# Altium footprint library 1_to_5_Pin.PcbLib: 195 footprints (part 7 of 13)
Each footprint in its own frame and in the unit in brackets; x right, y up, seen from the top. Pads: shape width x height; smd on the part's side, far side on the other; paste and mask are expansions set on the pad; w line width, h text height; cw(c..) or ccw(c..) is an arc to the next point about the centre after c.
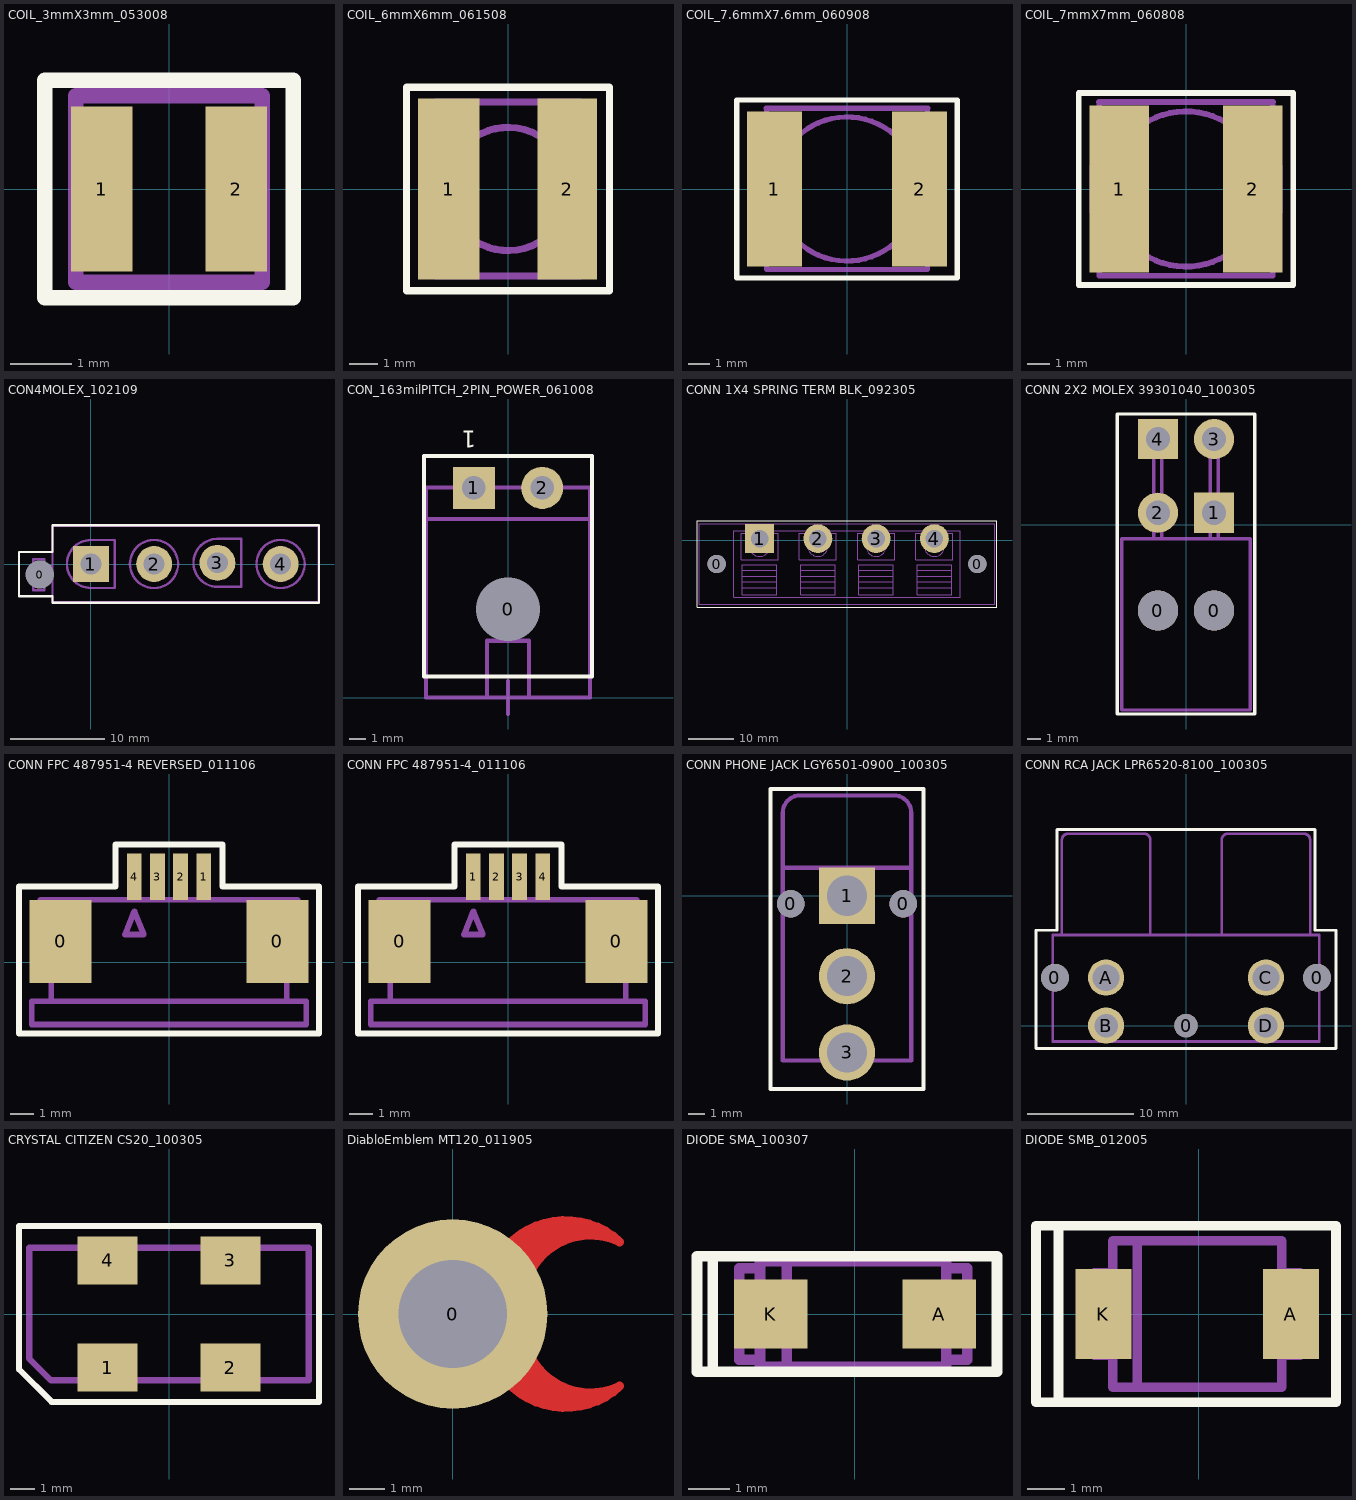
[diagram p6: the footprints below, top view; thin cyan lines are the x and y axes]

## COIL_3mmX3mm_053008 [mm] "SMT"
height 1.27
pads (2):
  rect 1x2.7 smd: 1(-1.1,0) 2(1.1,0)
Top Overlay:
  lines w0.254: -2.032,-1.778 -2.032,1.778 2.032,1.778 2.032,-1.778 -2.032,-1.778
Assembly Outline:
  lines w0.254: -1.524,-1.524 1.524,-1.524 1.524,1.524 -1.524,1.524 -1.524,-1.524
Assembly Designator:
  text ".Designator" at -1.27,-0.508 h1.02
Assembly Comment:
  text ".Comment" at -2.159,-3.048 h1.02

## COIL_6mmX6mm_061508 [mil] "SMT"
height 120
pads (2):
  rect 85x250 smd: 1(-82,0)
  rect 82x250 smd: 2(82,0)
Top Overlay:
  lines w10: -140.04,-140.35 -140.04,140 ; -140,-140.35 140,-140.35 ; -140,140.35 140,140.35 ; 140.04,-140.35 140.04,140
Assembly Outline:
  circle w10: c0,0 r85
  lines w10: -100,-39.37 -111.81,-39.37 -111.81,39.37 -100,39.37 ; 100,-39.37 111.81,-39.37 111.81,39.37 100,39.37 ; -100,-120 -100,0 -100,120 100,120 100,-120 -100,-120
Assembly Designator:
  text ".Designator" at -55,-10 h40
Assembly Comment:
  text ".Comment" at -125,-190 h40

## COIL_7.6mmX7.6mm_060908 [mm] "SMT"
height 3.048
pads (2):
  rect 2.6x7.3 smd: 1(-3.429,0) 2(3.429,0)
Top Overlay:
  lines w0.254: -5.207,-4.2 5.207,-4.2 5.207,4.2 -5.207,4.2 -5.207,-4.2
Assembly Outline:
  circle w0.254: c0,0 r3.4
  lines w0.254: -3.8,-1 -4.1,-1 -4.1,1 -3.8,1 -3.8,0 ; -3.8,3.8 -3.8,0 ; 3.8,-1 4.1,-1 4.1,1 3.8,1 3.8,0 ; 3.8,3.8 3.8,-3.8 -3.8,-3.8 -3.8,0
Assembly Designator:
  text ".Designator" at -1.143,1.397 h1.02
Assembly Comment:
  lines w0.254: -3.81,3.81 3.81,3.81
  text ".Comment" at -2.794,-0.381 h1.02

## COIL_7mmX7mm_060808 [mm] "SMT"
height 3.048
pads (2):
  rect 2.6x7.3 smd: 1(-2.921,0) 2(2.921,0)
Top Overlay:
  lines w0.254: -4.7,-4.2 -4.7,4.2 4.7,4.2 4.7,0.1 4.7,-4.2 -4.7,-4.2
Assembly Outline:
  circle w0.254: c0,0 r3.4
  lines w0.254: -3.81,3.81 3.81,3.81 ; -3.8,-1 -4.1,-1 -4.1,1 -3.8,1 -3.8,0 ; -3.8,3.8 -3.8,0 ; 3.8,-1 4.1,-1 4.1,1 3.8,1 3.8,0 ; 3.8,3.8 3.8,-3.8 -3.8,-3.8 -3.8,0
Assembly Designator:
  text ".Designator" at -1.143,1.397 h1.02
Assembly Comment:
  text ".Comment" at -2.794,-0.381 h1.02

## CON4MOLEX_102109 [mil] "TH"
height 500
pads (5):
  round 60 hole 118: 0(-213,-44)
  rect 150x150 hole 87: 1(0,0)
  round 150 hole 87: 2(264,0) 3(528,5) 4(792,0)
Top Overlay:
  lines w10: -300,-135 -160,-135 -160,-162 952,-162 952,162 -160,162 -160,50 -300,50 -300,-135
Assembly Outline:
  circle w10: c263.5,0 r100.5
  circle w10: c791.5,0 r100.5
  lines w10: -160,-75 -195,-75 -195,-110 -240,-110 -240,20 -195,20 -195,-10 -160,-10 ; -160,-160 -160,160 950,160 950,-160 -160,-160 ; 0,-100 cw(c0,0) 0,100 100,100 100,-100 0,-100 ; 528,-95 cw(c528,5) 528,105 628,105 628,-95 528,-95
Assembly Designator:
  text ".Designator" at 360,115 h40
Assembly Comment:
  text ".Comment" at 10,-140 h40

## CON_163milPITCH_2PIN_POWER_061008 [mil] "TH"
height 310
pads (3):
  round 60 hole 151.97: 0(0,210)
  rect 100x100 hole 56: 1(-81.5,498.98)
  round 100 hole 56: 2(81.5,498.98)
Top Overlay:
  lines w10: -200,50 -200,575 200,575 200,50 -200,50
  text "1" at -75,635 h40
Assembly Outline:
  lines w10: -195,425 192,425 ; -50,0 -50,135 50,135 50,0 ; -33,0.16 34,0.16 ; 0,-39.21 0,39.53 ; -195,0 195,0 195,500 -195,500 -195,0

## CONN 1X4 SPRING TERM BLK_092305 [mil] "TH"
height 540
pads (6):
  round 160 hole 160: 0(-1130,-205) 0(1130,-205)
  rect 250x250 hole 150: 1(-757.5,15)
  round 250 hole 150: 2(-252.5,15) 3(252.5,15) 4(757.5,15)
Top Overlay:
  lines w10: -252.5,170 1300,170 1300,-580 -1300,-580 -1300,170 252.5,170
Assembly Outline:
  circle w10: c757.5,-55 r85
  circle w10: c252.5,-55 r85
  circle w10: c-252.5,-55 r85
  circle w10: c-757.5,-55 r85
  lines w10: -607.5,-410 -872.5,-410 -907.5,-410 -907.5,-360 ; -607.5,-360 -872.5,-360 -907.5,-360 ; -607.5,-310 -872.5,-310 -907.5,-310 ; -607.5,-260 -882.5,-260 -907.5,-260 ; -597.5,-55 -597.5,60 ; -102.5,-410 -367.5,-410 -402.5,-410 -402.5,-360 ; -102.5,-360 -367.5,-360 -402.5,-360 ; -102.5,-310 -367.5,-310 -402.5,-310 ; -102.5,-260 -377.5,-260 -402.5,-260 ; -92.5,-55 -92.5,60 ; 402.5,-410 137.5,-410 102.5,-410 102.5,-360 ; 402.5,-360 137.5,-360 102.5,-360 ; 402.5,-310 137.5,-310 102.5,-310 ; 402.5,-260 127.5,-260 102.5,-260 ; 412.5,-55 412.5,60 ; 907.5,-410 642.5,-410 607.5,-410 607.5,-360 ; 907.5,-360 642.5,-360 607.5,-360 ; 907.5,-310 642.5,-310 607.5,-310 ; 907.5,-260 632.5,-260 607.5,-260 ; 917.5,-55 917.5,60 ; 1280,-205 1280,145 ; -907.5,-360 -907.5,-310 ; -907.5,-310 -907.5,-260 ; -907.5,-260 -907.5,-210 ; -907.5,-210 -607.5,-210 -607.5,-470 -907.5,-470 -907.5,-210 ; -597.5,60 -597.5,-170 -917.5,-170 -917.5,60 -597.5,60 ; -402.5,-360 -402.5,-310 ; -402.5,-310 -402.5,-260 ; -402.5,-260 -402.5,-210 ; -402.5,-210 -102.5,-210 -102.5,-470 -402.5,-470 -402.5,-210 ; -92.5,60 -92.5,-170 -412.5,-170 -412.5,60 -92.5,60 ; 102.5,-360 102.5,-310 ; 102.5,-310 102.5,-260 ; 102.5,-260 102.5,-210 ; 102.5,-210 402.5,-210 402.5,-470 102.5,-470 102.5,-210 ; 412.5,60 412.5,-170 92.5,-170 92.5,60 412.5,60 ; 607.5,-360 607.5,-310 ; 607.5,-310 607.5,-260 ; 607.5,-260 607.5,-210 ; 607.5,-210 907.5,-210 907.5,-470 607.5,-470 607.5,-210 ; 917.5,60 917.5,-170 597.5,-170 597.5,60 917.5,60 ; 1280,145 0,145 -1280,145 -1280,-555 1280,-555 1280,145 ; -980,-495 980,-495 980,85 -980,85 -980,-495

## CONN 2X2 MOLEX 39301040_100305 [mm] "TH"
height 9.6
pads (6):
  round 3 hole 3: 0(-2.1,-6.4) 0(2.1,-6.4)
  rect 3x3 hole 1.8: 1(2.1,0.9) 4(-2.1,6.4)
  round 3 hole 1.8: 2(-2.1,0.9) 3(2.1,6.4)
Top Overlay:
  lines w0.254: -5.125,-14.125 0,-14.125 5.125,-14.125 5.125,8.275 0,8.275 -5.125,8.275 -5.125,-14.125
Assembly Outline:
  lines w0.254: -2.4,-1.025 -2.4,6.4 -1.8,6.4 -1.8,-1.025 -2.1,-1.025 ; -2.4,0.9 -2.1,0.9 -1.8,0.9 ; 1.8,-1.025 1.8,6.4 2.4,6.4 2.4,-1.025 2.1,-1.025 ; 1.8,0.9 2.1,0.9 2.4,0.9 ; -4.8,-13.825 4.8,-13.825 4.8,-1.025 -4.8,-1.025 -4.8,-13.825
Assembly Designator:
  text ".Designator" at -0.425,-3.85 h1.02
Assembly Comment:
  text ".Comment" at -3.925,-10.125 h1.02

## CONN FPC 487951-4 REVERSED_011106 [mm] "SMT"
height 2.54
pads (6):
  rect 2.68x3.6 smd: 0(-4.7,0.9) 0(4.7,0.9)
  rect 0.635x2 smd: 1(1.5,3.7) 2(0.5,3.7) 3(-0.5,3.7) 4(-1.5,3.7)
Top Overlay:
  lines w0.254: -6.5,-3.1 0,-3.1 6.5,-3.1 6.5,0 6.5,2.35 6.5,3.275 2.325,3.275 2.325,5.1 -2.325,5.1 -2.325,3.275 -6.5,3.275 -6.5,2.35 -6.5,0 -6.5,-3.1
Assembly Outline:
  lines w0.254: -5.1,2.7 -5.1,0.05 ; -1.5,2.7 -1.5,3.85 ; -0.5,2.7 -0.5,3.85 ; 0.5,2.7 0.5,3.85 ; 1.5,2.7 1.5,3.85 ; 5.1,2.7 5.1,0.05 ; -5.95,-1.7 -5.1,-1.7 -5.1,0.05 ; -5.95,-1.7 5.95,-1.7 ; -5.95,-1.7 -5.95,-2.7 5.95,-2.7 5.95,-1.7 ; -5.1,0.05 -5.575,0.05 -5.575,2.7 0,2.7 5.575,2.7 5.575,0.05 5.1,0.05 ; 5.1,0.05 5.1,-1.7 5.95,-1.7 ; -1.9,1.2 -1.5,2.2 -1.1,1.2 -1.9,1.2
Assembly Designator:
  text ".Designator" at -1.4,0 h1.02
Assembly Comment:
  text ".Comment" at -4.275,-4.475 h1.02

## CONN FPC 487951-4_011106 [mm] "SMT"
height 2.54
pads (6):
  rect 2.68x3.6 smd: 0(-4.7,0.9) 0(4.7,0.9)
  rect 0.635x2 smd: 1(-1.5,3.7) 2(-0.5,3.7) 3(0.5,3.7) 4(1.5,3.7)
Top Overlay:
  lines w0.254: -6.5,-3.1 0,-3.1 6.5,-3.1 6.5,0 6.5,2.35 6.5,3.275 2.325,3.275 2.325,5.1 -2.325,5.1 -2.325,3.275 -6.5,3.275 -6.5,2.35 -6.5,0 -6.5,-3.1
Assembly Outline:
  lines w0.254: -5.1,2.7 -5.1,0.05 ; -1.5,2.7 -1.5,3.85 ; -0.5,2.7 -0.5,3.85 ; 0.5,2.7 0.5,3.85 ; 1.5,2.7 1.5,3.85 ; 5.1,2.7 5.1,0.05 ; -5.95,-1.7 -5.1,-1.7 -5.1,0.05 ; -5.95,-1.7 5.95,-1.7 ; -5.95,-1.7 -5.95,-2.7 5.95,-2.7 5.95,-1.7 ; -5.1,0.05 -5.575,0.05 -5.575,2.7 0,2.7 5.575,2.7 5.575,0.05 5.1,0.05 ; 5.1,0.05 5.1,-1.7 5.95,-1.7 ; -1.9,1.2 -1.5,2.2 -1.1,1.2 -1.9,1.2
Assembly Designator:
  text ".Designator" at -1.4,0 h1.02
Assembly Comment:
  text ".Comment" at -4.275,-4.475 h1.02

## CONN PHONE JACK LGY6501-0900_100305 [mm] "TH"
height 9
pads (5):
  round 1.7 hole 1.7: 0(-3.5,-0.5) 0(3.5,-0.5)
  rect 3.5x3.5 hole 2.5: 1(0,0)
  round 3.5 hole 2.5: 2(0,-5) 3(0,-9.75)
Top Overlay:
  lines w0.254: -4.775,-12.025 -4.775,6.65 0,6.65 4.775,6.65 4.775,-12.025 4.425,-12.025 0,-12.025 -4.425,-12.025 -4.775,-12.025
Assembly Outline:
  lines w0.254: 4,1.75 -4,1.75 ; -4,1.75 -4,-10.25 4,-10.25 4,5.175 ccw(c2.925,5.175) 2.925,6.25 -2.925,6.25 ccw(c-2.925,5.175) -4,5.175 -4,1.75
Assembly Designator:
  text ".Designator" at -1.425,-3.025 h1.02
Assembly Comment:
  text ".Comment" at -4.325,-15.175 h1.02

## CONN RCA JACK LPR6520-8100_100305 [mm] "TH"
height 12.1
pads (7):
  round 2.6 hole 2.6: 0(-12.3,4.5) 0(12.3,4.5)
  round 2.2 hole 2.2: 0(0,0)
  round 3.4 hole 2.5: A(-7.5,4.5) C(7.5,4.5)
  round 3.4 hole 2.2: B(-7.5,0) D(7.5,0)
Top Overlay:
  lines w0.254: -14.075,-2.15 0,-2.15 14.075,-2.15 14.075,8.95 12.1,8.95 12.1,18.4 0,18.4 -12.1,18.4 -12.1,8.95 -14.075,8.95 -14.075,-2.15
Assembly Outline:
  lines w0.254: 12.3,3.85 12.3,5.175 ; -12.5,-1.5 -11.65,-1.5 12.5,-1.5 12.5,8.5 0,8.5 -12.5,8.5 -12.5,-1.5 ; -11.65,8.5 -11.65,17.425 cw(c-11.075,17.425) -11.075,18 -3.925,18 cw(c-3.925,17.425) -3.35,17.425 -3.35,8.5 -7.5,8.5 -11.65,8.5 ; 3.35,8.5 3.35,17.425 cw(c3.925,17.425) 3.925,18 11.075,18 cw(c11.075,17.425) 11.65,17.425 11.65,8.5 7.5,8.5 3.35,8.5
Assembly Designator:
  text ".Designator" at -0.85,4.95 h1.02
Assembly Comment:
  text ".Comment" at -3.5,-3.425 h1.02

## CRYSTAL CITIZEN CS20_100305 [mm] "SMT"
height 2
pads (4):
  rect 2.5x2 smd: 1(-2.55,-2.225) 2(2.55,-2.225) 3(2.55,2.225) 4(-2.55,2.225)
Top Overlay:
  lines w0.254: -6.225,0 -6.225,3.65 ; 0,-3.65 6.225,-3.65 ; -6.225,3.65 0,3.65 6.225,3.65 6.225,0 6.225,-3.65 ; -6.225,3.65 -6.225,-2.3 -4.875,-3.65 6.225,-3.65
Assembly Outline:
  lines w0.254: 0,2.75 -5.8,2.75 ; -5.8,2.75 5.8,2.75 5.8,-2.75 -4.9,-2.75 -5.8,-1.85 -5.8,2.75
Assembly Designator:
  text ".Designator" at -1.275,-0.45 h1.02
Assembly Comment:
  text ".Comment" at -2.325,-5.375 h1.02

## DiabloEmblem MT120_011905 [mil] "FEATURE SMT PCB"
pads (1):
  round 210 hole 120: 0(0,0)
Top Layer:
  lines w10: 60,-75 ccw(c125,-15) 185,-80 cw(c152.5,-12.5) 85,-45 ccw(c112.5,-47.5) 110,-75 ; 60,75 cw(c125,15) 185,80 ccw(c152.5,12.5) 85,45 cw(c142.5,32.5) 155,90 ccw(c122.5,37.5) 70,70 ; 65,-65 ccw(c112.5,-42.5) 135,-90 ; 65,-50 ccw(c105,-45) 110,-85 ; 70,60 cw(c112.5,42.5) 130,85 ; 75,-60 ccw(c132.5,-32.5) 160,-90 ; 75,-45 ccw(c132.5,-27.5) 139.66,-87.18 ; 90,80 ccw(c97.5,62.5) 80,55 cw(c130,40) 145,90

## DIODE SMA_100307 [mil] "SMT"
height 90
pads (2):
  rect 70x66 smd: A(80,0) K(-80,0)
Top Overlay:
  lines w10: -135,-55 -135,55 ; -150,-55 135,-55 135,55 -150,55 -150,-55
Assembly Outline:
  lines w10: -90.16,-43.31 -109.84,-43.31 -109.84,0 -109.84,43.31 -90.16,43.31 ; -64.57,-50 -64.57,50 ; 87.01,-43.31 106.69,-43.31 106.69,0 106.69,43.31 87.01,43.31 ; -90.16,-50 87.01,-50 87.01,50 -90.16,50 -90.16,0 -90.16,-50
Assembly Designator:
  text ".Designator" at -45,-15 h40
Assembly Comment:
  text ".Comment" at -105,90 h40

## DIODE SMB_012005 [mm] "SMT"
height 2.286
pads (2):
  rect 1.5x2.4 smd: A(2.46,0) K(-2.54,0)
Top Overlay:
  lines w0.254: -3.74,-2.35 -3.74,0 -3.74,2.35 ; -3.74,-2.35 3.66,-2.35 3.66,0 3.66,2.35 -3.74,2.35 ; -3.74,-2.35 -4.34,-2.35 -4.34,2.35 -3.74,2.35
Assembly Outline:
  lines w0.254: -2.29,-1.1 -2.79,-1.1 -2.79,0 -2.79,1.1 -2.29,1.1 ; -1.64,-1.95 -1.64,1.95 -2.29,1.95 ; 2.21,-1.1 2.71,-1.1 2.71,0 2.71,1.1 2.21,1.1 ; -2.29,1.95 -2.29,0 -2.29,-1.95 2.21,-1.95 2.21,1.95 -2.29,1.95
Assembly Designator:
  text ".Designator" at -1.143,-0.381 h1.02
Assembly Comment:
  text ".Comment" at -2.667,2.286 h1.02